# EAGLE library part SIM01 (library chipcard-siemens)
Siemens M20 CHIP CARD READER
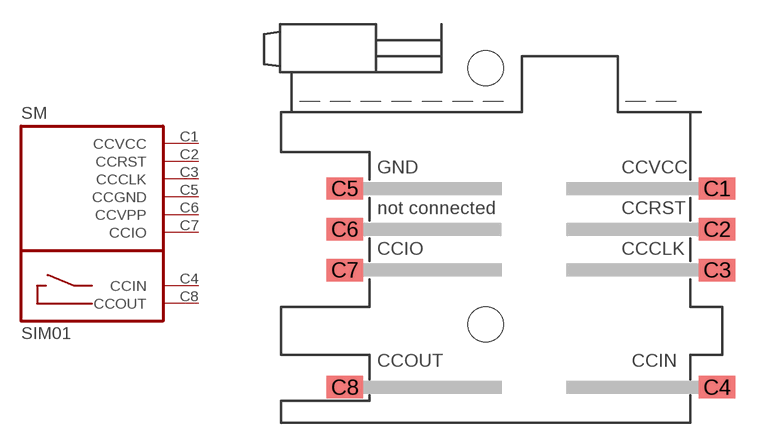
[diagram p1: symbol with the pads of SIM-M20; footprint SIM-M20]

Designator prefix SM

## SIM01  [SIM-M20]
C1  CCVCC  pas
C2  CCRST  pas
C3  CCCLK  pas
C4  CCIN  pas
C5  CCGND  pas
C6  CCVPP  pas
C7  CCIO  pas
C8  CCOUT  pas

## Footprint SIM-M20 (pad centres in mm)
Siemens M20 CHIP CARD READER SIM-Kartenleser für SIEMENS Modul M20 91228-0001 SIM PCB CONNECTOR von MOLEX
smd 2.286 x 1.397: C1 11.43,2.235; C2 11.43,-0.305; C3 11.43,-2.845; C4 11.43,-10.16; C5 -11.786,2.235; C6 -11.786,-0.305; C7 -11.786,-2.845; C8 -11.786,-10.16
hole 2.184 at -3.004,9.75
hole 2.184 at -3.004,-6.25